# Altium schematic symbol library TPS25200.SchLib: 1 symbol
Pins are listed as number, name and electrical type; pins without a type are passive.

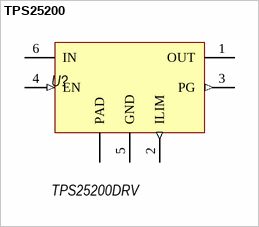
[diagram p0: symbol TPS25200]

## TPS25200
designator U?, comment TPS25200DRV
footprint WSON-6 (2 X 2)
pins: 1 OUT (power) "Output pin.", 2 ILIM (out) "Dual function pin used to limit and monitor the output current.", 3 PG (out) "Power Good indication. This is an Open Drain signal which is asserted.", 4 EN (in) "Enable pin. Pull High to enable the device. Pull Low to disable the device. This pin has an internal pull-down resistor of typically 400kohm when the device is disabled", 5 GND (power), 6 IN (power) "Input pin.", PP PAD (power)